# EAGLE library part USB-C31-S-RA-CS1D-BK-T/R (library CONNECTORs)
USB - C (Type - C) USB 3.1 (USB 3.1 Gen 2, Superspeed+) Receptacle Connector 24 Position Surface Mount, Right Angle; Through Hole
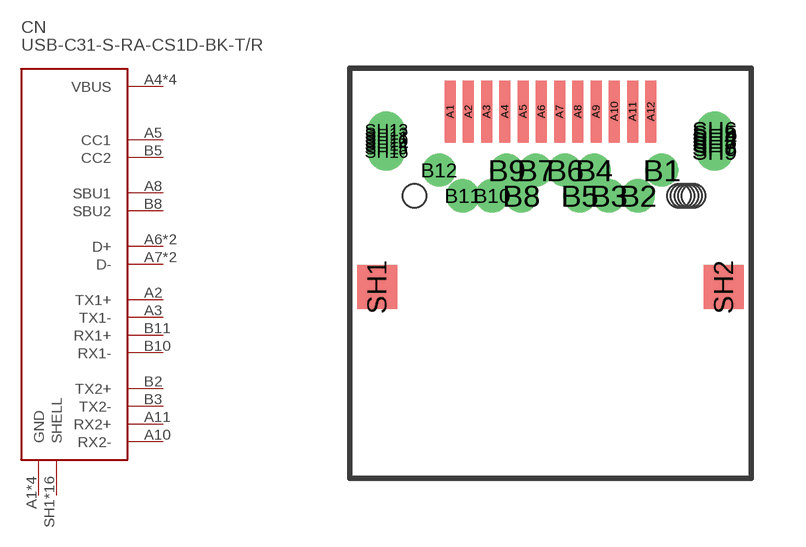
[diagram p64: symbol with the pads of USB-C31-S-RA-CS1D-BK-T/R; footprint USB-C31-S-RA-CS1D-BK-T/R]

Designator prefix CN

## USB-C31-S-RA-CS1D-BK-T/R (DIGIKEY: 2057-USB-C31-S-RA-CS1D-BK-T/RCT-ND; HEIGHT: 3.5; PRICE_PER: 0.95; VALUE: USB C)  [USB-C31-S-RA-CS1D-BK-T/R]
A1  GND
A2  TX1+
A3  TX1-
A4  VBUS
A5  CC1
A6  D+
A7  D-
A8  SBU1
A9  VBUS
A10  RX2-
A11  RX2+
A12  GND
B1  GND
B2  TX2+
B3  TX2-
B4  VBUS
B5  CC2
B6  D+
B7  D-
B8  SBU2
B9  VBUS
B10  RX1-
B11  RX1+
B12  GND
SH1  SHELL
SH2  SHELL
SH3  SHELL
SH4  SHELL
SH5  SHELL
SH6  SHELL
SH7  SHELL
SH8  SHELL
SH9  SHELL
SH10  SHELL
SH11  SHELL
SH12  SHELL
SH13  SHELL
SH14  SHELL
SH15  SHELL
SH16  SHELL

## Footprint USB-C31-S-RA-CS1D-BK-T/R (pad centres in mm)
smd 0.3 x 1.7: A1 -2.75,4.81; A2 -2.25,4.81; A3 -1.75,4.81; A4 -1.25,4.81; A5 -0.75,4.81; A6 -0.25,4.81; A7 0.25,4.81; A8 0.75,4.81; A9 1.25,4.81; A10 1.75,4.81; A11 2.25,4.81; A12 2.75,4.81
drill 0.4 pad 0.65: B1 3.05,3.2; B2 2.4,2.5; B3 1.6,2.5; B4 1.2,3.2; B5 0.8,2.5; B6 0.4,3.2; B7 -0.4,3.2; B8 -0.8,2.5; B9 -1.2,3.2; B10 -1.6,2.5; B11 -2.4,2.5; B12 -3.05,3.2
smd 1.1 x 1.2: SH1 -4.75,0; SH2 4.75,0
drill 0.5 pad 1: SH3 4.5,4; SH4 4.5,4.1; SH5 4.5,4.2; SH6 4.5,4.3; SH7 4.5,3.9; SH8 4.5,3.8; SH9 4.5,3.7; SH10 -4.5,4; SH11 -4.5,4.1; SH12 -4.5,4.2; SH13 -4.5,4.3; SH14 -4.5,3.9; SH15 -4.5,3.8; SH16 -4.5,3.7
hole 0.65 at -3.725,2.5
hole 0.65 at 3.725,2.5
hole 0.65 at 3.625,2.5
hole 0.65 at 3.525,2.5
hole 0.65 at 3.825,2.5
hole 0.65 at 3.925,2.5